# EAGLE library part HX1 (library Octanis1)
Radiometrix HX1: VHF Narrow Band FM 300mW Transmitter. HX1-144.390-3
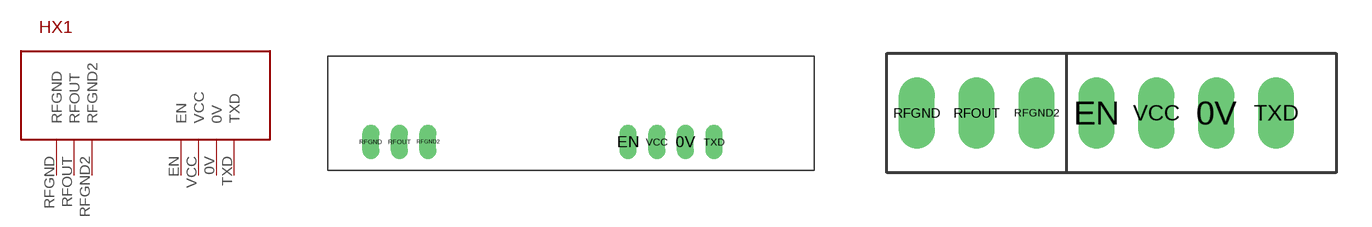
[diagram p0: symbol with the pads of HX1; footprints HX1, HX1_EXT]

Designator prefix -

## HX1BOARDMOUNT  [HX1]
0V  0V
EN  EN
RFGND  RFGND  pwr
RFGND2  RFGND2  pwr
RFOUT  RFOUT
TXD  TXD
VCC  VCC  pwr

## HX1EXTERNALMOUNT  [HX1_EXT]
Pads as for HX1

## Footprint HX1 (pad centres in mm)
drill 1.016 long: 0V 13.97,0; EN 8.89,0; RFGND -13.97,0; RFGND2 -8.89,0; RFOUT -11.43,0; TXD 16.51,0; VCC 11.43,0

## Footprint HX1_EXT (pad centres in mm)
drill 1.016 long: 0V 12.7,0; EN 7.62,0; RFGND 0,0; RFGND2 5.08,0; RFOUT 2.54,0; TXD 15.24,0; VCC 10.16,0